# Altium schematic symbol library C514175.SchLib: 1 symbol
Pins are listed as number, name and electrical type; pins without a type are passive.

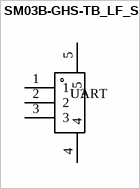
[diagram p0: symbol SM03B-GHS-TB_LF_SN]

## SM03B-GHS-TB_LF_SN
designator U?, comment UART
Connector Header 3 position 1.25mm Pitch 1A Surface Mount, Right Angle -25â„ƒ~+85â„ƒ; Name: C514175; Source: LCSC
footprint CONN-TH_SM03B-GHS-TB-LF-SN (Connector Header 3 position 1.25mm Pitch 1A Surface Mount, Right Angle -25?~+85?)
pins: 1, 2, 3, 4, 5